# Altium schematic symbol library ILPS28QSW.SchLib: 1 symbol
Pins are listed as number, name and electrical type; pins without a type are passive.

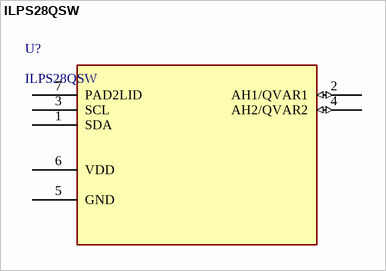
[diagram p0: symbol ILPS28QSW]

## ILPS28QSW
designator U?
No Description Available; Mfr_Name: STMicroelectronics; Manufacturer_Part_Number: ILPS28QSWTR; Copyright: Copyright (C) 2023 Ultra Librarian. All rights reserved.; RefDes: RefDes; Type: DEV; Supplier 1: Mouser; Supplier Part Number 1: 511-ILPS28QSWTR
footprint LGA7_ILPS28_STM
pins: 1 SDA, 2 AH1/QVAR1 (io), 3 SCL, 4 AH2/QVAR2 (io), 5 GND (power), 6 VDD (power), 7 PAD2LID (power)